# Altium footprint library Stamp-P4.PcbLib: 1 footprints
Each footprint in its own frame and in the unit in brackets; x right, y up, seen from the top. Pads: shape width x height; smd on the part's side, far side on the other; paste and mask are expansions set on the pad; w line width, h text height; cw(c..) or ccw(c..) is an arc to the next point about the centre after c.
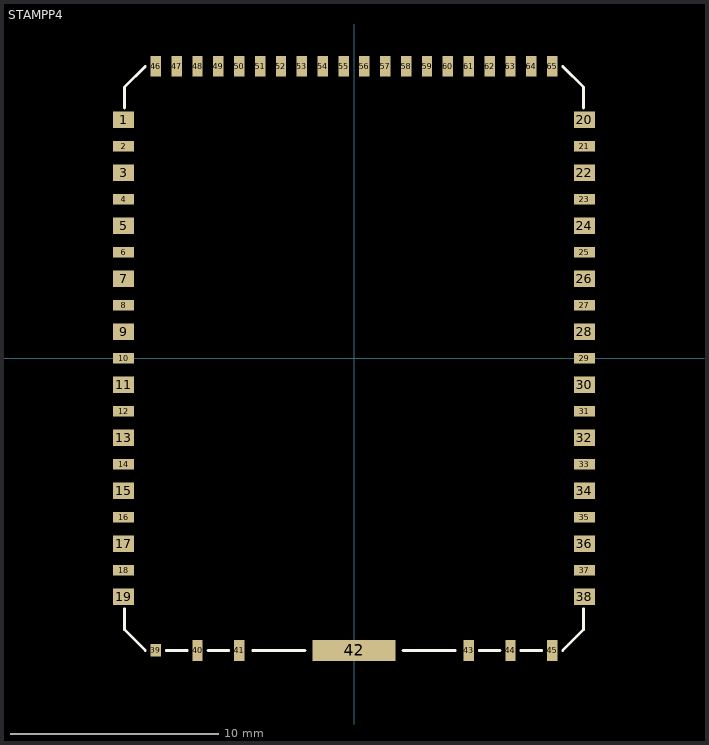
[diagram p0: the footprint, top view; thin cyan lines are the x and y axes]

## STAMPP4 [mm]
pads (65):
  rect 1x0.8 smd: 1(-11.04,11.43) 3(-11.04,8.89) 5(-11.04,6.35) 7(-11.04,3.81) 9(-11.04,1.27) 11(-11.04,-1.27) 13(-11.04,-3.81) 15(-11.04,-6.35) 17(-11.04,-8.89) 19(-11.04,-11.43) 20(11.04,11.43) 22(11.04,8.89) 24(11.04,6.35) 26(11.04,3.81) 28(11.04,1.27) 30(11.04,-1.27) 32(11.04,-3.81) 34(11.04,-6.35) 36(11.04,-8.89) 38(11.04,-11.43)
  rect 1x0.5 smd: 2(-11.04,10.16) 4(-11.04,7.62) 6(-11.04,5.08) 8(-11.04,2.54) 10(-11.04,0) 12(-11.04,-2.54) 14(-11.04,-5.08) 16(-11.04,-7.62) 18(-11.04,-10.16) 21(11.04,10.16) 23(11.04,7.62) 25(11.04,5.08) 27(11.04,2.54) 29(11.04,0) 31(11.04,-2.54) 33(11.04,-5.08) 35(11.04,-7.62) 37(11.04,-10.16)
  rect 0.5x0.6 smd: 39(-9.5,-14)
  rect 0.5x1 smd: 40(-7.5,-14) 41(-5.5,-14) 43(5.5,-14) 44(7.5,-14) 45(9.5,-14) 46(-9.5,14) 47(-8.5,14) 48(-7.5,14) 49(-6.5,14) 50(-5.5,14) 51(-4.5,14) 52(-3.5,14) 53(-2.5,14) 54(-1.5,14) 55(-0.5,14) 56(0.5,14) 57(1.5,14) 58(2.5,14) 59(3.5,14) 60(4.5,14) 61(5.5,14) 62(6.5,14) 63(7.5,14) 64(8.5,14) 65(9.5,14)
  rect 4x1 smd: 42(0,-14)
Top Overlay:
  lines w0.127: -11,-12 -11,-13 -10,-14 ; -11,12 -11,13 -10,14 ; -9,-14 -8,-14 ; -7,-14 -6,-14 ; -4.848,-14 -2.348,-14 ; 2.348,-14 4.848,-14 ; 6,-14 7,-14 ; 8,-14 9,-14 ; 10,-14 11,-13 11,-12 ; 10,14 11,13 11,12
3D body "StampP4_PCB_main_V0.3_20251126.step": height 4.26, standoff 0, extent -11,-15.78 11,14